# EAGLE library part 0TG-LIB-V01.4_UNDERVOLT-TPS3702CX3 (library TG-Watch02B-rev04)
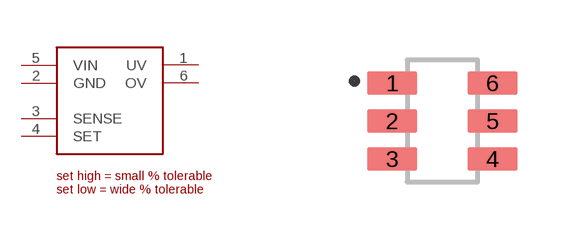
[diagram p2: symbol with the pads of 0TG-LIB-V01.4_SOT95P280X110-6N; footprint 0TG-LIB-V01.4_SOT95P280X110-6N]

Designator prefix -

## 0TG-LIB-V01.4_UNDERVOLT-TPS3702CX3  [0TG-LIB-V01.4_SOT95P280X110-6N]
1  UV
2  GND
3  SENSE
4  SET
5  VIN
6  OV

## Footprint 0TG-LIB-V01.4_SOT95P280X110-6N (pad centres in mm)
smd 1.25 x 0.59: 1 -1.255,0.95; 2 -1.255,0; 3 -1.255,-0.95; 4 1.255,-0.95; 5 1.255,0; 6 1.255,0.95